# Altium schematic symbol library RES-0805-TEST.SchLib: 1 symbol
Pins are listed as number, name and electrical type; pins without a type are passive.

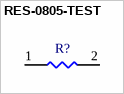
[diagram p0: symbol RES-0805-TEST]

## RES-0805-TEST
designator R?  (value not drawn)
Resistor library test 0805 package resistor
footprint RES0805 (Generic 0805 PCB Footprint)
pins: 1, 2